# Altium schematic symbol library WS2812B2020.SchLib: 1 symbol
Pins are listed as number, name and electrical type; pins without a type are passive.

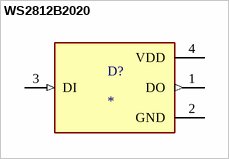
[diagram p0: symbol WS2812B2020]

## WS2812B2020
designator D?
LED; SMD; 2020; RGB; 2x2x0.84mm; 3.7Ã·5.3V; Lens: transparent; 2kHz; MF: WorldSemi; MP: WS2812B2020; SnapEDA_Link: https://www.snapeda.com/parts/WS2812B2020/Worldsemi/view-part/?ref=snap; Package: None; Value: *; Check_prices: https://www.snapeda.com/parts/WS2812B2020/Worldsemi/view-part/?ref=eda
footprint LED_WS2812B2020
pins: 1 DO (out), 2 GND (power), 3 DI (in), 4 VDD (power)